# Altium schematic symbol library LEDDimmerLib.SchLib: 23 symbols
Pins are listed as number, name and electrical type; pins without a type are passive.

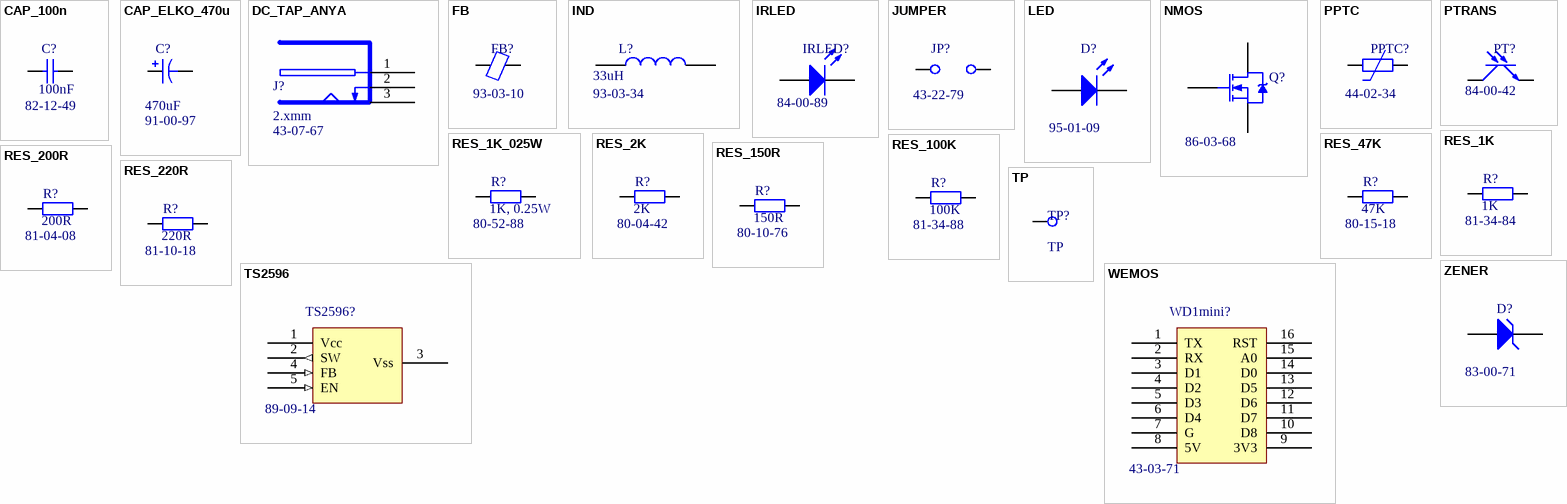
[diagram p0: symbols CAP_100n to ZENER]

## CAP_100n
designator C?, comment Supplier: 82-12-49  (hidden comment: 100nF)
Capacitor; ComponentLink1Description: Datasheet; ComponentLink2Description: Store; ComponentLink1URL: https://lomex.hu/pdf/(sam)_cl05b104ko5nnnd.pdf; ComponentLink2URL: https://lomex.hu/hu/webshop/#/search,82-12-49/stype,1; Value: 100nF
footprint FP_0402_CAP_050 (0.5mm magas 0402 kapacitás)
footprint FP_0603_CAP_080 (0.8mm magas 0603 kapacitás)
footprint FP_0805_CAP_085 (0805 kapacitás YAGEO 0.85mm magas)
footprint FP_1206_CAP_125 (1206 kapacitás 1.25 mm)
pins: 1, 2

## CAP_ELKO_470u
designator C?, comment Supplier: 91-00-97  (hidden comment: 470uF)
Polarized Capacitor; ComponentLink1URL: https://lomex.hu/pdf/(tea)_xv_series.pdf; ComponentLink2URL: https://lomex.hu/hu/webshop/#/search,91-00-97/stype,1; ComponentLink1Description: Datasheet; ComponentLink2Description: Store; Value: 470uF
footprint ELKO_CAP (Elko capactior)
pins: N, P
1 alternate drawing of the same symbol

## DC_TAP_ANYA
designator J?, comment 2.xmm  Supplier: 43-07-67
2.xmm DC HEBA25 TÁPFESZÜLTSÉG ALJZAT ZÁRT, NYÁKBA 90°; ComponentLink2URL: https://lomex.hu/hu/webshop/#/search,43-07-67/stype,1; ComponentLink1URL: https://lomex.hu/pdf/g-s/(g-s)_dcs-5521-5.pdf; ComponentLink1Description: Datasheet; ComponentLink2Description: Store
footprint FP_DC_TAP_ANYA (DC HEBA25 TÁPFESZÜLTSÉG ALJZAT ZÁRT, NYÁKBA 90°)
pins: 1 9V (power), 2 GND (power), 3 GND (power)

## FB
designator FB?  Supplier: 93-03-10  (hidden comment: FB)
Ferrite bead; ComponentLink1URL: https://lomex.hu/pdf/(vik)_cb.pdf; ComponentLink2URL: https://lomex.hu/hu/webshop/#/search,93-03-10/stype,1; ComponentLink1Description: Datasheet; ComponentLink2Description: Store
footprint FB (0603 ferrite bead)
pins: 1, 2

## IND
designator L?, comment Supplier: 93-03-34  (hidden comment: 33uH)
Inductor; ComponentLink1URL: https://lomex.hu/pdf/(vik)_pcdr.pdf; ComponentLink2URL: https://lomex.hu/hu/webshop/#page,0/search,93-03-34/stype,1; ComponentLink1Description: Datasheet; ComponentLink2Description: Store; Value: 33uH
footprint IND (Inductor 33uH)
pins: 1, 2

## IRLED
designator IRLED?  Supplier: 84-00-89  (hidden comment: IRLED)
InfraLED; ComponentLink1Description: Datasheet; ComponentLink2Description: Store; ComponentLink1URL: https://lomex.hu/pdf/(kin)_kp-2012f3c.pdf; ComponentLink2URL: https://lomex.hu/hu/webshop/#page,0/search,84-00-89/stype,1
footprint IRLED (Infrared led 0805)
pins: 1 A, 2 K

## JUMPER
designator JP?  Supplier: 43-22-79  (hidden comment: JUMPER)
Jumper Wire; ComponentLink2URL: https://lomex.hu/hu/webshop/#page,0/search,43-22-79/stype,1; ComponentLink1URL: https://lomex.hu/pdf/(tlm)_tlphc-300r-1112-xxp-x.pdf; ComponentLink1Description: Datasheet; ComponentLink2Description: Store
footprint CONN2
pins: 1 C1, 2 C2

## LED
designator D?  Supplier: 95-01-09  (hidden comment: LED)
Typical RED GaAs LED; ComponentLink1Description: Datasheet; ComponentLink2Description: Store; ComponentLink1URL: https://lomex.hu/pdf/(kin)_kp-2012sgc.pdf; ComponentLink2URL: https://lomex.hu/hu/webshop/#page,0/search,95-01-09/stype,1
footprint FP_LED_TH_GREEN (5mm átmérõjû furatszerelt zöld LED); pin to pad 1>A 2>K
footprint FP_LED_TH_RED (5mm átmérõjû furatszerelt piros LED); pin to pad 1>A 2>K
footprint FP_0805_LED_RED (0805 méretû piros LED); pin to pad 1>A 2>K
footprint FP_0805_LED_GREEN (0805 méretû zöld LED); pin to pad 1>A 2>K
pins: 1 A, 2 K

## NMOS
designator Q?  Supplier: 86-03-68  (hidden comment: NMOS)
NXP - BSP030,115 - MOSFET, N CH, 30V, 10A, SOT223; ComponentLink2URL: https://lomex.hu/hu/webshop/#page,0/search,86-03-68/stype,1; ComponentLink1URL: https://lomex.hu/pdf/irl540ns.pdf; ComponentLink1Description: Datasheet; ComponentLink2Description: Store
footprint IRL540N (D2PAK)
pins: 1 G, 2 D, 3 S

## PPTC
designator PPTC?  Supplier: 44-02-34  (hidden comment: PPTC)
Polymeric Positive Temperature Coefficient; ComponentLink1Description: Datasheet; ComponentLink2Description: Store; ComponentLink1URL: https://lomex.hu/pdf/(lfs)_1812l.pdf; ComponentLink2URL: https://lomex.hu/hu/webshop/#page,0/search,44-02-34/stype,1
footprint PPTC (PPTC 1812)
pins: 1, 2

## PTRANS
designator PT?, comment Supplier: 84-00-42  (hidden comment: PT)
Phototransistor; ComponentLink2Description: Store; ComponentLink2URL: https://lomex.hu/hu/webshop/#page,0/search,84-00-42/stype,1; ComponentLink1Description: Datasheet; ComponentLink1URL: https://lomex.hu/pdf/k2012p3b.pdf
footprint IRLED (Infrared led 0805)
pins: 1 A, 2 K

## RES_1K
designator R?, comment Supplier: 81-34-84  (hidden comment: 1K)
Resistor; ComponentLink1URL: https://lomex.hu/pdf/(yag)_rc0603_serie.pdf; ComponentLink2Description: Store; ComponentLink2URL: https://lomex.hu/hu/webshop/#page,0/search,81-34-84/stype,1; ComponentLink1Description: Datasheet; Value: 1K
footprint FP_0603_RES (0603 ellenállás)
footprint FP_0805_RES (0805 ellenállás)
footprint FP_1206_RES (1206 ellenállás)
pins: 1, 2

## RES_1K_025W
designator R?, comment Supplier: 80-52-88  (hidden comment: 1K, 0.25W)
Resistor; ComponentLink1URL: https://lomex.hu/pdf/(yag)_rc1206_serie.pdf; ComponentLink2Description: Store; ComponentLink2URL: https://lomex.hu/hu/webshop/#/search,80-52-88/stype,1; ComponentLink1Description: Datasheet; Value: 1K, 0.25W
footprint FP_0603_RES (0603 ellenállás)
footprint FP_0805_RES (0805 ellenállás)
footprint FP_1206_RES (1206 ellenállás)
pins: 1, 2

## RES_2K
designator R?, comment Supplier: 80-04-42  (hidden comment: 2K)
Resistor; ComponentLink1URL: https://lomex.hu/pdf/(yag)_rc0603_serie.pdf; ComponentLink2Description: Store; ComponentLink2URL: https://lomex.hu/hu/webshop/#page,0/search,80-04-42/stype,1; ComponentLink1Description: Datasheet; Value: 2K
footprint FP_0603_RES (0603 ellenállás)
footprint FP_0805_RES (0805 ellenállás)
footprint FP_1206_RES (1206 ellenállás)
pins: 1, 2

## RES_47K
designator R?, comment Supplier: 80-15-18  (hidden comment: 47K)
Resistor; ComponentLink1URL: https://lomex.hu/pdf/(asj)_generalthickfilmchipresistor_09102017.pdf; ComponentLink2Description: Store; ComponentLink2URL: https://lomex.hu/hu/webshop/#page,0/search,80-15-18/stype,1; ComponentLink1Description: Datasheet; Value: 47K
footprint FP_0603_RES (0603 ellenállás)
footprint FP_0805_RES (0805 ellenállás)
footprint FP_1206_RES (1206 ellenállás)
pins: 1, 2

## RES_100K
designator R?, comment Supplier: 81-34-88  (hidden comment: 100K)
Resistor; ComponentLink1URL: https://lomex.hu/pdf/(yag)_rc0603_serie.pdf; ComponentLink2Description: Store; ComponentLink2URL: https://lomex.hu/hu/webshop/#page,0/search,81-34-88/stype,1; ComponentLink1Description: Datasheet; Value: 100K
footprint FP_0603_RES (0603 ellenállás)
footprint FP_0805_RES (0805 ellenállás)
footprint FP_1206_RES (1206 ellenállás)
pins: 1, 2

## RES_150R
designator R?, comment Supplier: 80-10-76  (hidden comment: 150R)
Resistor; ComponentLink1URL: https://lomex.hu/pdf/(tcl)_cr.pdf; ComponentLink2Description: Store; ComponentLink2URL: https://lomex.hu/hu/webshop/#/search,80-10-76/stype,1; ComponentLink1Description: Datasheet; Value: 150R
footprint FP_0603_RES (0603 ellenállás)
footprint FP_0805_RES (0805 ellenállás)
footprint FP_1206_RES (1206 ellenállás)
pins: 1, 2

## RES_200R
designator R?, comment Supplier: 81-04-08  (hidden comment: 200R)
Resistor; ComponentLink1URL: https://lomex.hu/pdf/(koa)_rk73b.pdf; ComponentLink2Description: Store; ComponentLink2URL: https://lomex.hu/hu/webshop/#page,0/search,81-04-08/stype,1; ComponentLink1Description: Datasheet; Value: 200R
footprint FP_0603_RES (0603 ellenállás)
footprint FP_0805_RES (0805 ellenállás)
footprint FP_1206_RES (1206 ellenállás)
pins: 1, 2

## RES_220R
designator R?, comment Supplier: 81-10-18  (hidden comment: 220R)
Resistor; ComponentLink1URL: https://lomex.hu/pdf/(tcl)_cr03.pdf; ComponentLink2Description: Store; ComponentLink2URL: https://lomex.hu/hu/webshop/#page,0/search,81-10-18/stype,1; ComponentLink1Description: Datasheet; Value: 220R
footprint FP_0603_RES (0603 ellenállás)
footprint FP_0805_RES (0805 ellenállás)
footprint FP_1206_RES (1206 ellenállás)
pins: 1, 2

## TP
designator TP?
Test Point
footprint FP_CONN1_TUSKE_254MM (1×1 tüskesor)
pins: 1

## TS2596
designator TS2596?  Supplier: 89-09-14
TS2596 Buck DCDC; ComponentLink1Description: Datasheet; ComponentLink2Description: Store; ComponentLink1URL: https://lomex.hu/pdf/tsc/(tsc)_ts2596.pdf; ComponentLink2URL: https://lomex.hu/hu/webshop/#page,0/search,89-09-14/stype,1
footprint TS2596
pins: 1 Vcc (power), 2 SW (out), 3 Vss (power), 4 FB (in), 5 EN (in)

## WEMOS
designator WD1mini?, comment Supplier: 43-03-71  (hidden comment: WD1mini)
Wemos D1 mini; ComponentLink2URL: https://lomex.hu/hu/webshop/#page,0/search,43-03-71/stype,1; ComponentLink1URL: https://lomex.hu/pdf/(t-t)_fhsh-2.54-xx.pdf; ComponentLink2Description: Store; ComponentLink1Description: Datasheet
footprint WEMOSD1
pins: 1 TX, 2 RX, 3 D1, 4 D2, 5 D3, 6 D4, 7 G, 8 5V, 9 3V3, 10 D8, 11 D7, 12 D6, 13 D5, 14 D0, 15 A0, 16 RST

## ZENER
designator D?  Supplier: 83-00-71  (hidden comment: ZENER)
Zener Diode; U_Z: 24; ComponentLink1URL: https://lomex.hu/pdf/(tsc)_sk32a-sk315a.pdf; ComponentLink2URL: https://lomex.hu/hu/webshop/#page,0/search,83-00-71/stype,1; ComponentLink1Description: Datasheet; ComponentLink2Description: Store
footprint SCHOTTKY (Schottky)
pins: 1 A, 2 K